# Altium footprint library TPS22991BRAAR.PcbLib: 1 footprints
Each footprint in its own frame and in the unit in brackets; x right, y up, seen from the top. Pads: shape width x height; smd on the part's side, far side on the other; paste and mask are expansions set on the pad; w line width, h text height; cw(c..) or ccw(c..) is an arc to the next point about the centre after c.
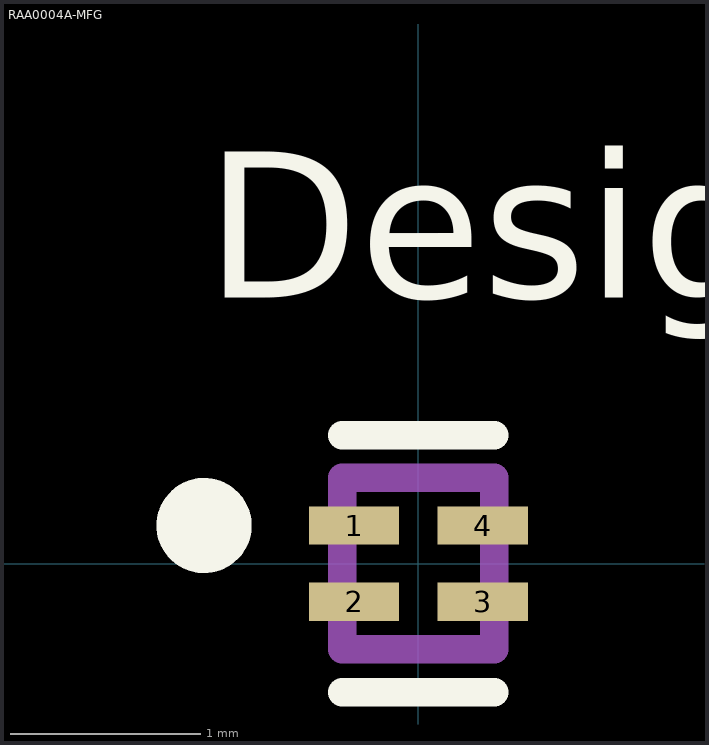
[diagram p0: the footprint, top view; thin cyan lines are the x and y axes]

## RAA0004A-MFG [mm]
pads (4):
  rect 0.475x0.2 smd paste+0 mask+0: 1(-0.337,0.2) 2(-0.337,-0.2) 3(0.337,-0.2) 4(0.337,0.2)
Top Overlay:
  circle w0.25: c-1.125,0.2 r0.125
  lines w0.15: -0.4,-0.675 0.4,-0.675 ; -0.4,0.675 0.4,0.675
  text ".Designator" at -3.492,-0.635 h1.27
  text "Designator905" at -1.118,1.397 h1.27
Mechanical 13:
  lines w0.15: -0.4,-0.45 0.4,-0.45 0.4,0.45 -0.4,0.45 -0.4,-0.45
  text ".Designator" at -3.492,-0.635 h1.27
3D body "RAA0004A.step": height 0.6, standoff 0, extent -0.375,-0.425 0.375,0.425